# Altium footprint library DF13-40-1.25mm.PcbLib: 1 footprints
Each footprint in its own frame and in the unit in brackets; x right, y up, seen from the top. Pads: shape width x height; smd on the part's side, far side on the other; paste and mask are expansions set on the pad; w line width, h text height; cw(c..) or ccw(c..) is an arc to the next point about the centre after c.
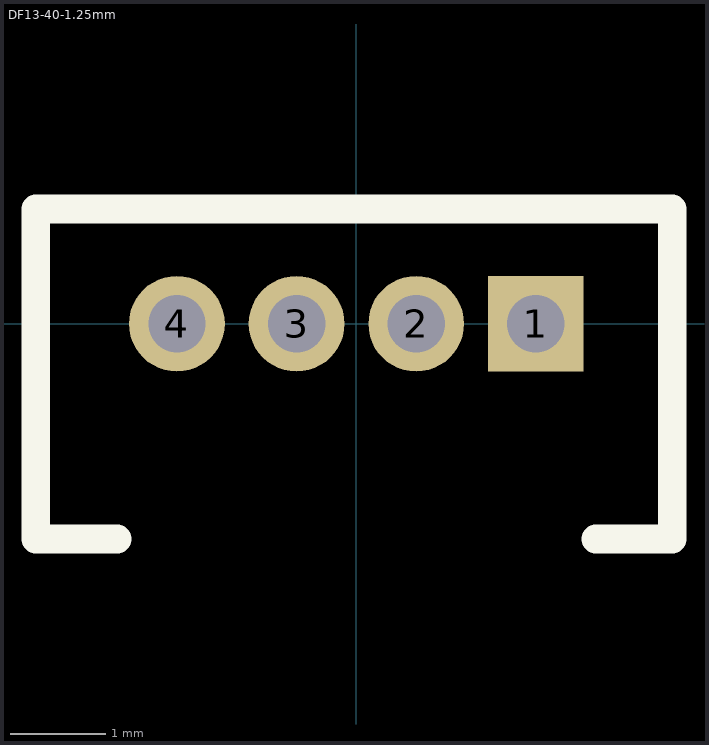
[diagram p0: the footprint, top view; thin cyan lines are the x and y axes]

## DF13-40-1.25mm [mm] "4-pin DF13 connector"
pads (4):
  rect 1x1 hole 0.6 unplated mask+0.075: 1(1.875,0)
  round 1 hole 0.6 unplated mask+0.075: 2(0.625,0) 3(-0.625,0) 4(-1.875,0)
Top Overlay:
  lines w0.3: -2.5,-2.25 -3.35,-2.25 -3.35,1.2 3.3,1.2 3.3,-2.25 2.5,-2.25
3D body "DF13-4P-1.25DSA.stp": height 4.27, standoff -2.33, extent -3.325,-2.2 3.325,1.2